# EAGLE library part FCBS0550 (library spm)
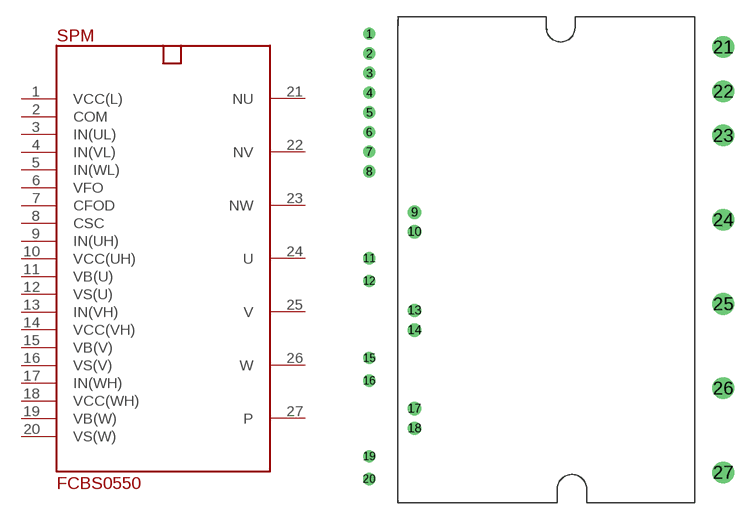
[diagram p0: symbol with the pads of FCBS0550; footprint FCBS0550]

Designator prefix SPM

## FCBS0550SPM27-BA  [FCBS0550]
1  VCC(L)  pwr
2  COM  sup
3  IN(UL)  in
4  IN(VL)  in
5  IN(WL)  in
6  VFO  out
7  CFOD
8  CSC  in
9  IN(UH)  in
10  VCC(UH)  pwr
11  VB(U)  pwr
12  VS(U)
13  IN(VH)  in
14  VCC(VH)  pwr
15  VB(V)  pwr
16  VS(V)
17  IN(WH)  in
18  VCC(WH)  pwr
19  VB(W)  pwr
20  VS(W)
21  NU  in
22  NV  in
23  NW  in
24  U  out
25  V  out
26  W  out
27  P  in

## Footprint FCBS0550 (pad centres in mm)
drill 0.6 round: 1 -16,20.447; 2 -16,18.669; 3 -16,16.891; 4 -16,15.113; 5 -16,13.335; 6 -16,11.557; 7 -16,9.779; 8 -16,8.001; 11 -16,0.136; 12 -16,-1.914; 15 -16,-8.89; 16 -16,-10.94; 19 -16,-17.78; 20 -16,-19.83
drill 0.7 round: 9 -11.9,4.309; 10 -11.9,2.531; 13 -11.9,-4.581; 14 -11.9,-6.359; 17 -11.9,-13.471; 18 -11.9,-15.249
drill 1.3 round: 21 16,19.24; 22 16,15.24; 23 16,11.24; 24 16,3.62; 25 16,-4; 26 16,-11.62; 27 16,-19.24